# EAGLE library part FEATHER32 (library personal)
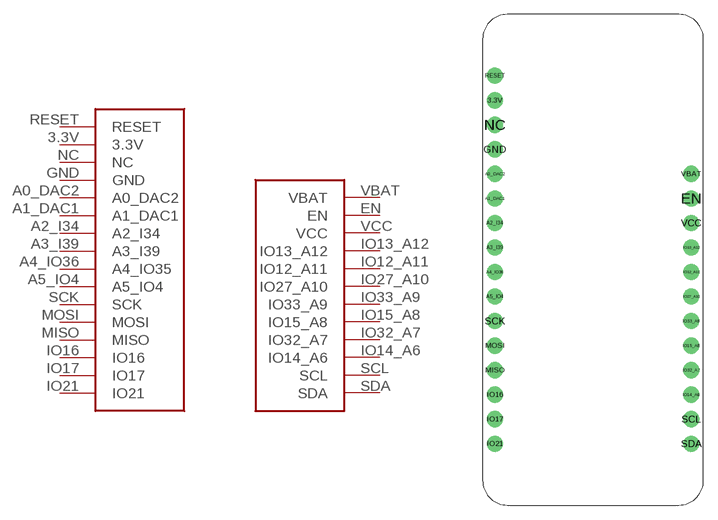
[diagram p0: symbol with the pads of FEATHER32; footprint FEATHER32]

Designator prefix -

## FEATHER32  [FEATHER32]
3.3V  3.3V
A0_DAC2  A0_DAC2
A1_DAC1  A1_DAC1
A2_I34  A2_I34
A3_I39  A3_I39
A4_IO36  A4_IO35
A5_IO4  A5_IO4
EN  EN
GND  GND
IO12_A11  IO12_A11
IO13_A12  IO13_A12
IO14_A6  IO14_A6
IO15_A8  IO15_A8
IO16  IO16
IO17  IO17
IO21  IO21
IO27_A10  IO27_A10
IO32_A7  IO32_A7
IO33_A9  IO33_A9
MISO  MISO
MOSI  MOSI
NC  NC
RESET  RESET
SCK  SCK
SCL  SCL
SDA  SDA
VBAT  VBAT
VCC  VCC

## Footprint FEATHER32 (pad centres in mm)
drill 0.9 pad 1.676: 3.3V -10.16,16.51; A0_DAC2 -10.16,8.89; A1_DAC1 -10.16,6.35; A2_I34 -10.16,3.81; A3_I39 -10.16,1.27; A4_IO36 -10.16,-1.27; A5_IO4 -10.16,-3.81; EN 10.16,6.35; GND -10.16,11.43; IO12_A11 10.16,-1.27; IO13_A12 10.16,1.27; IO14_A6 10.16,-13.97; IO15_A8 10.16,-8.89; IO16 -10.16,-13.97; IO17 -10.16,-16.51; IO21 -10.16,-19.05; IO27_A10 10.16,-3.81; IO32_A7 10.16,-11.43; IO33_A9 10.16,-6.35; MISO -10.16,-11.43; MOSI -10.16,-8.89; NC -10.16,13.97; RESET -10.16,19.05; SCK -10.16,-6.35; SCL 10.16,-16.51; SDA 10.16,-19.05; VBAT 10.16,8.89; VCC 10.16,3.81